# Altium schematic symbol library 527450433.Schlib: 1 symbol
Pins are listed as number, name and electrical type; pins without a type are passive.

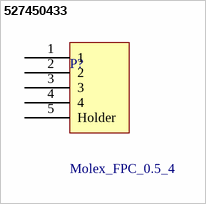
[diagram p0: symbol 527450433]

## 527450433
designator P?, comment Molex_FPC_0.5_4
0.5mm Pitch, 4 Pin Right Molex FPC Connector
pins: 1, 2, 3, 4, 5 Holder